# EAGLE library part ELM323?(V2.0) (library Elm Electronics)
ELM323 - OBD (ISO) to RS232 Interpreter (v2.0) based on Microchip Technology Inc.'s PIC16C505 (www.microchip.com) The ELM323 supports the ISO 9141-2 and ISO 14230-4 standards that are used by many vehicles throughout the world. You may wish to also consider the ELM327, as it offers several options for customizing the timing etc. that is not provided by the ELM323. More info on Elm Electronics Inc. <www.elmelectronics.com>.
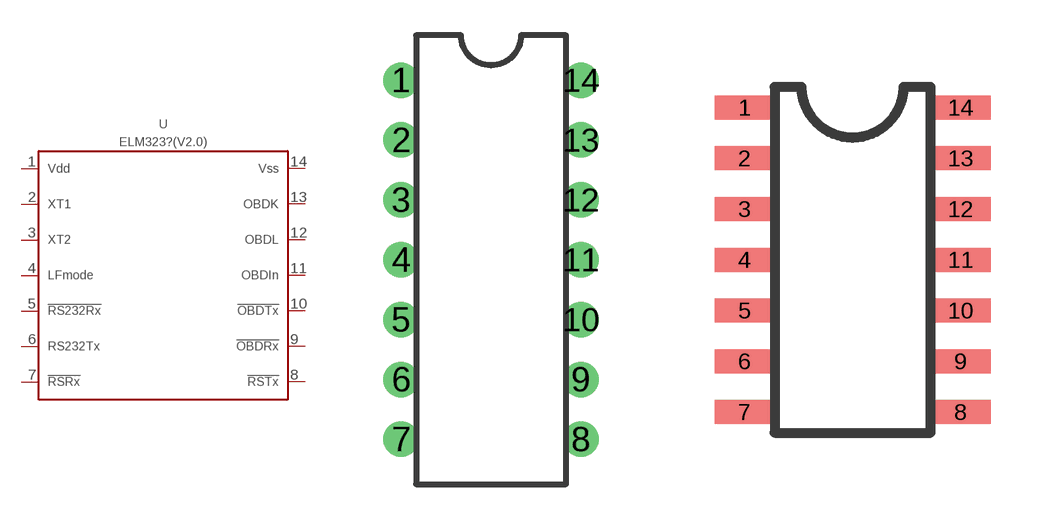
[diagram p6: symbol with the pads of PDIP(14); footprints PDIP(14), SOIC(14)]

Designator prefix U

## ELM323P(V2.0)  [PDIP(14)]
1  VDD
2  XT1
3  XT2
4  LFMODE
5  !RS232RX
6  RS232TX
7  !RSRX
8  !RSTX
9  !OBDRX
10  !OBDTX
11  OBDIN
12  OBDL
13  OBDK
14  VSS

## ELM323SM(V2.0)  [SOIC(14)]
Pads as for PDIP(14)

## Footprint PDIP(14) (pad centres in mm)
14-Lead Plastic Dual In-Line (P) - 300 mil Body [PDIP]
drill 1 pad 1.5: 1 -3.81,7.62; 2 -3.81,5.08; 3 -3.81,2.54; 4 -3.81,0; 5 -3.81,-2.54; 6 -3.81,-5.08; 7 -3.81,-7.62; 8 3.81,-7.62; 9 3.81,-5.08; 10 3.81,-2.54; 11 3.81,0; 12 3.81,2.54; 13 3.81,5.08; 14 3.81,7.62

## Footprint SOIC(14) (pad centres in mm)
14-Lead Plastic Small Outline (SL) - Narrow, 3.90 mm Body [SOIC]
smd 1.5 x 0.6: 1 -2.7,3.81; 2 -2.7,2.54; 3 -2.7,1.27; 4 -2.7,0; 5 -2.7,-1.27; 6 -2.7,-2.54; 7 -2.7,-3.81; 8 2.7,-3.81; 9 2.7,-2.54; 10 2.7,-1.27; 11 2.7,0; 12 2.7,1.27; 13 2.7,2.54; 14 2.7,3.81